# Altium footprint library WE-HCFT.PcbLib: 22 footprints (part 2 of 2)
Each footprint in its own frame and in the unit in brackets; x right, y up, seen from the top. Pads: shape width x height; smd on the part's side, far side on the other; paste and mask are expansions set on the pad; w line width, h text height; cw(c..) or ccw(c..) is an arc to the next point about the centre after c.
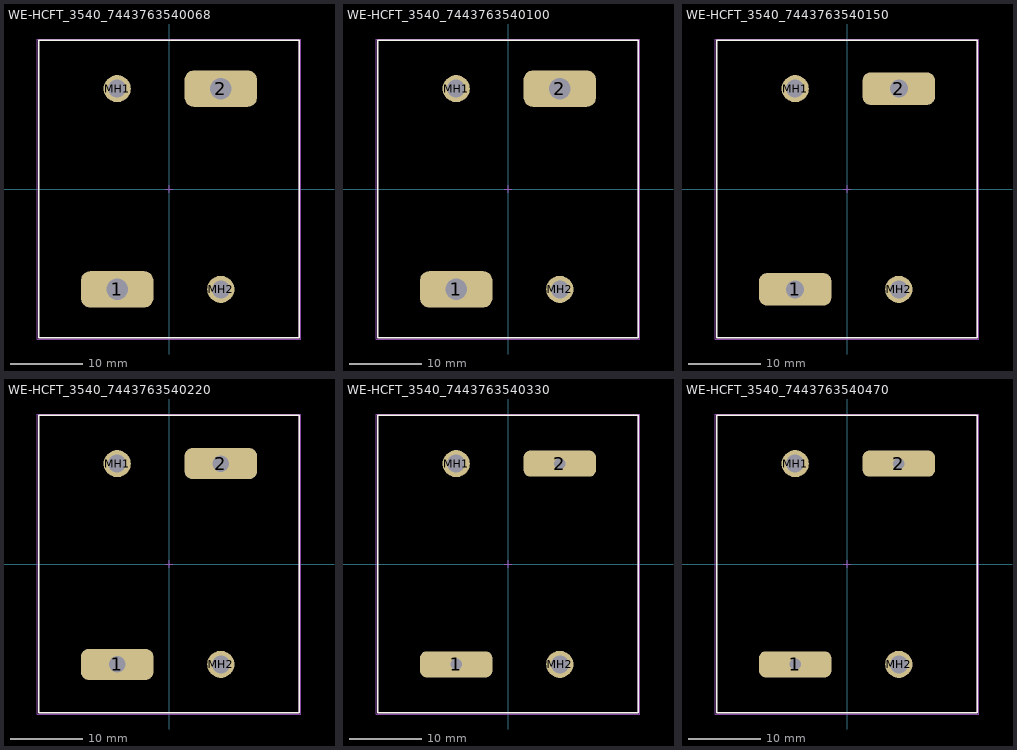
[diagram p1: the footprints below, top view; thin cyan lines are the x and y axes]

## WE-HCFT_3540_7443763540068 [mm] "THT High Current Inductor, body 36x41mm"
height 35
pads (4):
  rrect50% 10x5 hole 3 square: 1(-7.15,-13.85) 2(7.15,13.85)
  round 3.75 hole 2.5: MH1(-7.15,13.85) MH2(7.15,-13.85)
Top Overlay:
  lines w0.2: -18,-20.5 18,-20.5 18,20.5 -18,20.5 -18,-20.5
Top Assembly:
  lines w0.1: -18,-20.5 -18,20.5 18,20.5 18,-20.5 -18,-20.5
Top Designator:
  text ".Designator" at -3.647,-0.357 h1
Top 3D Body:
  lines w0.1: -18,-20.5 18,-20.5 18,20.5 -18,20.5 -18,-20.5
Top Courtyard:
  lines w0.05: -18.2,-20.7 -18.2,20.7 18.2,20.7 18.2,-2.5 18.2,-20.7 -18.2,-20.7
Top Component Center:
  lines w0.1: -0.5,0 0.5,0 ; 0,-0.5 0,0.5
3D body "3540_7443763540xxx_2,0 wire.stp": height 33.45, standoff -3.45, extent -17.6,-20.26 17.6,20.25

## WE-HCFT_3540_7443763540100 [mm] "THT High Current Inductor, body 36x41mm"
height 35
pads (4):
  rrect50% 10x5 hole 3 square: 1(-7.15,-13.85) 2(7.15,13.85)
  round 3.75 hole 2.5: MH1(-7.15,13.85) MH2(7.15,-13.85)
Top Overlay:
  lines w0.2: -18,-20.5 18,-20.5 18,20.5 -18,20.5 -18,-20.5
Top Assembly:
  lines w0.1: -18,-20.5 -18,20.5 18,20.5 18,-20.5 -18,-20.5
Top Designator:
  text ".Designator" at -3.647,-0.357 h1
Top 3D Body:
  lines w0.1: -18,-20.5 18,-20.5 18,20.5 -18,20.5 -18,-20.5
Top Courtyard:
  lines w0.05: -18.2,-20.7 -18.2,20.7 18.2,20.7 18.2,-2.5 18.2,-20.7 -18.2,-20.7
Top Component Center:
  lines w0.1: -0.5,0 0.5,0 ; 0,-0.5 0,0.5
3D body "3540_7443763540xxx_2,0 wire.stp": height 33.45, standoff -3.45, extent -17.6,-20.26 17.6,20.25

## WE-HCFT_3540_7443763540150 [mm] "THT High Current Inductor, body 36x41mm"
height 35
pads (4):
  rrect50% 10x4.5 hole 2.5 square: 1(-7.15,-13.85) 2(7.15,13.85)
  round 3.75 hole 2.5: MH1(-7.15,13.85) MH2(7.15,-13.85)
Top Overlay:
  lines w0.2: -18,-20.5 18,-20.5 18,20.5 -18,20.5 -18,-20.5
Top Assembly:
  lines w0.1: -18,-20.5 -18,20.5 18,20.5 18,-20.5 -18,-20.5
Top Designator:
  text ".Designator" at -3.647,-0.357 h1
Top 3D Body:
  lines w0.1: -18,-20.5 -18,20.5 18,20.5 18,-20.5 -18,-20.5
Top Courtyard:
  lines w0.05: -18.2,-20.7 -18.2,20.7 18.2,20.7 18.2,-2.5 18.2,-20.7 -18.2,-20.7
Top Component Center:
  lines w0.1: -0.5,0 0.5,0 ; 0,-0.5 0,0.5
3D body "3540_7443763540xxx_1,5 wire.stp": height 33.45, standoff -3.45, extent -17.6,-20.26 17.6,20.25

## WE-HCFT_3540_7443763540220 [mm] "THT High Current Inductor, body 36x41mm"
height 35
pads (4):
  rrect50% 10x4.3 hole 2.3 square: 1(-7.15,-13.85) 2(7.15,13.85)
  round 3.75 hole 2.5: MH1(-7.15,13.85) MH2(7.15,-13.85)
Top Overlay:
  lines w0.2: -18,-20.5 -18,20.5 18,20.5 18,-20.5 -18,-20.5
Top Assembly:
  lines w0.1: -18,-20.5 -18,20.5 18,20.5 18,-20.5 -18,-20.5
Top Designator:
  text ".Designator" at -3.647,-0.357 h1
Top 3D Body:
  lines w0.1: -18,-20.5 18,-20.5 18,20.5 -18,20.5 -18,-20.5
Top Courtyard:
  lines w0.05: -18.2,-20.7 18.2,-20.7 18.2,-2.5 18.2,20.7 -18.2,20.7 -18.2,-20.7
Top Component Center:
  lines w0.1: -0.5,0 0.5,0 ; 0,-0.5 0,0.5
3D body "3540_7443763540xxx_1,3 wire.stp": height 33.45, standoff -3.45, extent -17.6,-20.26 17.6,20.25

## WE-HCFT_3540_7443763540330 [mm] "THT High Current Inductor, body 36x41mm"
height 35
pads (4):
  rrect50% 10x3.6 hole 1.6 square: 1(-7.15,-13.85) 2(7.15,13.85)
  round 3.75 hole 2.5: MH1(-7.15,13.85) MH2(7.15,-13.85)
Top Overlay:
  lines w0.2: -18,-20.5 -18,20.5 18,20.5 18,-20.5 -18,-20.5
Top Assembly:
  lines w0.1: -18,-20.5 -18,20.5 18,20.5 18,-20.5 -18,-20.5
Top Designator:
  text ".Designator" at -3.647,-0.357 h1
Top 3D Body:
  lines w0.1: -18,-20.5 18,-20.5 18,20.5 -18,20.5 -18,-20.5
Top Courtyard:
  lines w0.05: -18.2,-20.7 18.2,-20.7 18.2,-2.5 18.2,20.7 -18.2,20.7 -18.2,-20.7
Top Component Center:
  lines w0.1: -0.5,0 0.5,0 ; 0,-0.5 0,0.5
3D body "3540_7443763540xxx_0,8 wire.stp": height 33.45, standoff -3.45, extent -17.6,-20.26 17.6,20.25

## WE-HCFT_3540_7443763540470 [mm] "THT High Current Inductor, body 36x41mm"
height 35
pads (4):
  rrect50% 10x3.6 hole 1.6 square: 1(-7.15,-13.85) 2(7.15,13.85)
  round 3.75 hole 2.5: MH1(-7.15,13.85) MH2(7.15,-13.85)
Top Overlay:
  lines w0.2: -18,-20.5 18,-20.5 18,20.5 -18,20.5 -18,-20.5
Top Assembly:
  lines w0.1: -18,-20.5 18,-20.5 18,20.5 -18,20.5 -18,-20.5
Top Designator:
  text ".Designator" at -3.647,-0.357 h1
Top 3D Body:
  lines w0.1: -18,-20.5 -18,20.5 18,20.5 18,-20.5 -18,-20.5
Top Courtyard:
  lines w0.05: -18.2,-20.7 -18.2,20.7 18.2,20.7 18.2,-2.5 18.2,-20.7 -18.2,-20.7
Top Component Center:
  lines w0.1: -0.5,0 0.5,0 ; 0,-0.5 0,0.5
3D body "3540_7443763540xxx_0,8 wire.stp": height 33.45, standoff -3.45, extent -17.6,-20.26 17.6,20.25